# Altium integrated library OMRON Switch DIP.IntLib: 6 symbols
Pins are listed as number, name and electrical type; pins without a type are passive.

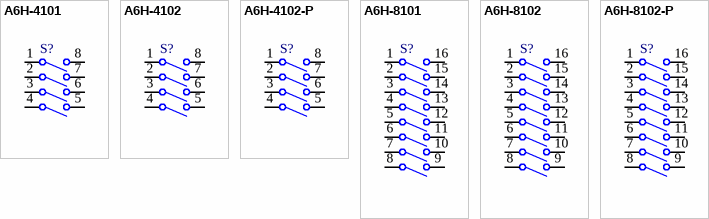
[diagram p0: symbols A6H-4101 to A6H-8102-P]

## A6H-4101
designator S?
Ultra-Low Profile, Half-Pitch, SM, Slide DIP Switch, Flat Actuator, White Striker, 4 Position, SPST, Std. Model; PCB_Layout: Complies with manufacturer's recommendation.; Published: 14-Mar-2008; DatasheetVersion: Jul-2007; PackageVersion: Jul-2007; PackageReference: A6H-4; Publisher: Altium Limited; PackageDescription: Slide DIP Switch; SM; 4 Position SPST; Body 6.31 x 4.5 mm (LxW); Pitch 1.27mm; ComponentLink1Description: Manufacturer Link; ComponentLink1URL: http://www.omron.com/; ComponentLink2Description: Datasheet; ComponentLink2URL: http://www.omron.com/ecb/products/pdf/en-a6h.pdf
footprint A6H-4 (Slide DIP Switch; SM; 8 Leads; Body 6.31x4.5mm (LxW typ); Pitch 1.27mm)
pins: 1 A1, 2 A2, 3 A3, 4 A4, 5 B4, 6 B3, 7 B2, 8 B1

## A6H-4102
designator S?
Ultra-Low Profile, Half-Pitch, SM, Slide DIP Switch, Flat Actuator, White Striker, 4 Position, SPST, Seal Tape: Stick-Tube Model; PCB_Layout: Complies with manufacturer's recommendation.; Published: 14-Mar-2008; DatasheetVersion: Jul-2007; PackageVersion: Jul-2007; PackageReference: A6H-4; Publisher: Altium Limited; PackageDescription: Slide DIP Switch; SM; 4 Position SPST; Body 6.31 x 4.5 mm (LxW); Pitch 1.27mm; ComponentLink1Description: Manufacturer Link; ComponentLink1URL: http://www.omron.com/; ComponentLink2Description: Datasheet; ComponentLink2URL: http://www.omron.com/ecb/products/pdf/en-a6h.pdf
footprint A6H-4 (Slide DIP Switch; SM; 8 Leads; Body 6.31x4.5mm (LxW typ); Pitch 1.27mm)
pins: 1 A1, 2 A2, 3 A3, 4 A4, 5 B4, 6 B3, 7 B2, 8 B1

## A6H-4102-P
designator S?
Ultra-Low Profile, Half-Pitch, SM, Slide DIP Switch, Flat Actuator, White Striker, 4 Position, SPST Seal Tape: Stick-Tube Model; PCB_Layout: Complies with manufacturer's recommendation.; Published: 14-Mar-2008; DatasheetVersion: Jul-2007; PackageVersion: Jul-2007; PackageReference: A6H-4; Publisher: Altium Limited; PackageDescription: Slide DIP Switch; SM; 4 Position SPST; Body 6.31 x 4.5 mm (LxW); Pitch 1.27mm; ComponentLink1Description: Manufacturer Link; ComponentLink1URL: http://www.omron.com/; ComponentLink2Description: Datasheet; ComponentLink2URL: http://www.omron.com/ecb/products/pdf/en-a6h.pdf
footprint A6H-4 (Slide DIP Switch; SM; 8 Leads; Body 6.31x4.5mm (LxW typ); Pitch 1.27mm)
pins: 1 A1, 2 A2, 3 A3, 4 A4, 5 B4, 6 B3, 7 B2, 8 B1

## A6H-8101
designator S?
Ultra-Low Profile, Half-Pitch, SM, Slide DIP Switch, Flat Actuator, White Striker, 8 Position, SPST, Std. Model; PCB_Layout: Complies with manufacturer's recommendation.; Published: 14-Mar-2008; DatasheetVersion: Jul-2007; PackageVersion: Jul-2007; PackageReference: A6H-8; Publisher: Altium Limited; PackageDescription: Slide DIP Switch; SM; 8 Position SPST; Body 11.39 x 4.5 mm (LxW); Pitch 1.27mm; ComponentLink1Description: Manufacturer Link; ComponentLink1URL: http://www.omron.com/; ComponentLink2Description: Datasheet; ComponentLink2URL: http://www.omron.com/ecb/products/pdf/en-a6h.pdf
footprint A6H-8 (Slide DIP Switch; SM; 16 Leads; Body 11.39x4.5mm (LxW typ); Pitch 1.27mm)
pins: 1 A1, 2 A2, 3 A3, 4 A4, 5 A5, 6 A6, 7 A7, 8 A8, 9 B8, 10 B7, 11 B6, 12 B5, 13 B4, 14 B3, 15 B2, 16 B1

## A6H-8102
designator S?
Ultra-Low Profile, Half-Pitch, SM, Slide DIP Switch, Flat Actuator, White Striker, 8 Position, SPST, Seal Tape: Stick-Tube Model; PCB_Layout: Complies with manufacturer's recommendation.; Published: 14-Mar-2008; DatasheetVersion: Jul-2007; PackageVersion: Jul-2007; PackageReference: A6H-8; Publisher: Altium Limited; PackageDescription: Slide DIP Switch; SM; 8 Position SPST; Body 11.39 x 4.5 mm (LxW); Pitch 1.27mm; ComponentLink1Description: Manufacturer Link; ComponentLink1URL: http://www.omron.com/; ComponentLink2Description: Datasheet; ComponentLink2URL: http://www.omron.com/ecb/products/pdf/en-a6h.pdf
footprint A6H-8 (Slide DIP Switch; SM; 16 Leads; Body 11.39x4.5mm (LxW typ); Pitch 1.27mm)
pins: 1 A1, 2 A2, 3 A3, 4 A4, 5 A5, 6 A6, 7 A7, 8 A8, 9 B8, 10 B7, 11 B6, 12 B5, 13 B4, 14 B3, 15 B2, 16 B1

## A6H-8102-P
designator S?
Ultra-Low Profile, Half-Pitch, SM, Slide DIP Switch, Flat Actuator, White Striker, 8 Position, SPST, Seal Tape: Embossed Taping Model; PCB_Layout: Complies with manufacturer's recommendation.; Published: 14-Mar-2008; DatasheetVersion: Jul-2007; PackageVersion: Jul-2007; PackageReference: A6H-8; Publisher: Altium Limited; PackageDescription: Slide DIP Switch; SM; 8 Position SPST; Body 11.39 x 4.5 mm (LxW); Pitch 1.27mm; ComponentLink1Description: Manufacturer Link; ComponentLink1URL: http://www.omron.com/; ComponentLink2Description: Datasheet; ComponentLink2URL: http://www.omron.com/ecb/products/pdf/en-a6h.pdf
footprint A6H-8 (Slide DIP Switch; SM; 16 Leads; Body 11.39x4.5mm (LxW typ); Pitch 1.27mm)
pins: 1 A1, 2 A2, 3 A3, 4 A4, 5 A5, 6 A6, 7 A7, 8 A8, 9 B8, 10 B7, 11 B6, 12 B5, 13 B4, 14 B3, 15 B2, 16 B1